# Altium footprint library SODFL470X250X110L130X175N.PcbLib: 1 footprints
Each footprint in its own frame and in the unit in brackets; x right, y up, seen from the top. Pads: shape width x height; smd on the part's side, far side on the other; paste and mask are expansions set on the pad; w line width, h text height; cw(c..) or ccw(c..) is an arc to the next point about the centre after c.
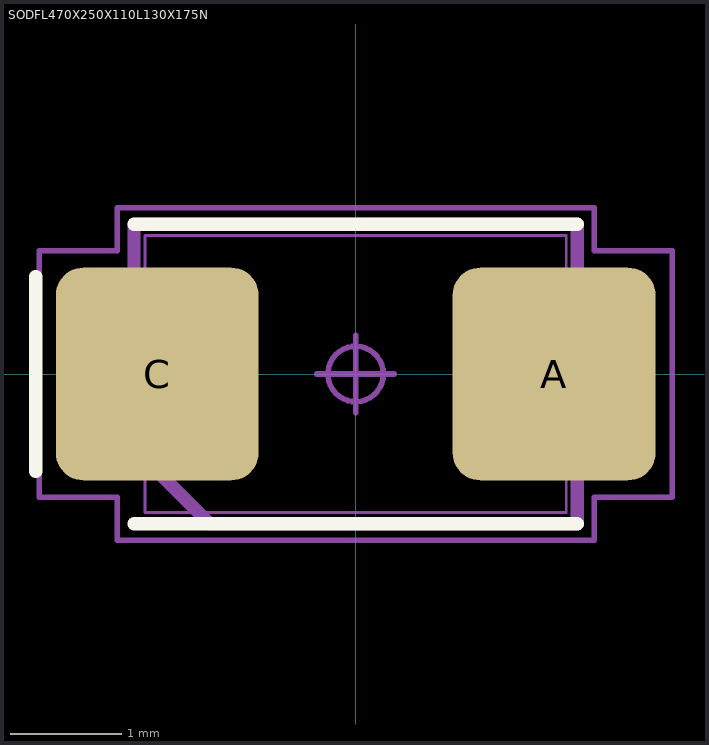
[diagram p0: the footprint, top view; thin cyan lines are the x and y axes]

## SODFL470X250X110L130X175N [mm] "Diode, Small Outline Diode Flat Lead (SODFL); 3.80 mm L X 2.50 mm W X 1.10 mm H body"
height 1.1
pads (2):
  rrect27% 1.83x1.92 smd: A(1.79,0) C(-1.79,0)
Top Overlay:
  lines w0.12: -2.885,-0.88 -2.885,0.88 ; -2,-1.35 2,-1.35 ; -2,1.35 2,1.35
Mechanical 3:
  lines w0.12: -2,-0.667 -1.317,-1.35 2,-1.35 2,1.35 -2,1.35 -2,-0.667
Mechanical 5:
  lines w0.025: -2.35,-0.875 -1.05,-0.875 -1.05,0.875 -2.35,0.875 -2.35,-0.875 ; -1.9,-1.25 -1.9,1.25 1.9,1.25 1.9,-1.25 -1.9,-1.25 ; 1.05,-0.875 1.05,0.875 2.35,0.875 2.35,-0.875 1.05,-0.875
Mechanical 7:
  circle w0.05: c0,0 r0.25
  lines w0.05: -0.35,0 0.35,0 ; 0,-0.35 0,0.35 ; -2.855,-1.11 -2.855,1.11 -2.15,1.11 -2.15,1.5 2.15,1.5 2.15,1.11 2.855,1.11 2.855,-1.11 2.15,-1.11 2.15,-1.5 -2.15,-1.5 -2.15,-1.11 -2.855,-1.11
Mechanical 9:
  text "'.Designator'" at -5.461,-0.381 h1
3D body "SODFL470X250X110L130X175.STEP": height 1.1, standoff 0, extent -2.35,-1.25 2.35,1.25
3D body: height 1.04, standoff 0, extent -2.855,-1.5 2.855,1.5